# EAGLE library part MN3010 (library ic-bbd)
Dual 512-Stage Lo Noise BBD
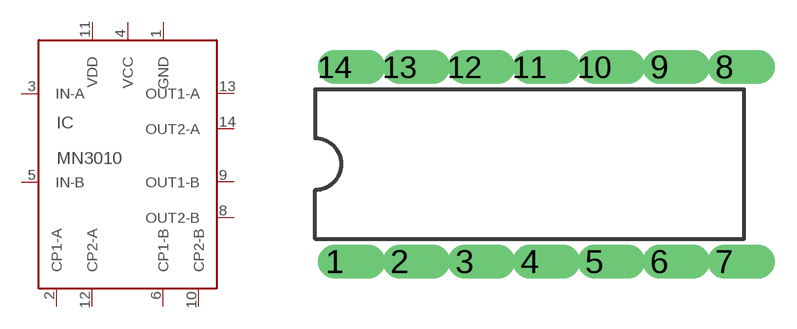
[diagram p7: symbol with the pads of DIL-14; footprint DIL-14]

Designator prefix IC

## MN3010  [DIL-14]
1  GND
2  CP1-A
3  IN-A
4  VCC
5  IN-B
6  CP1-B
8  OUT2-B
9  OUT1-B
10  CP2-B
11  VDD
12  CP2-A
13  OUT1-A
14  OUT2-A

## Footprint DIL-14 (pad centres in mm)
Dual In Line Package
drill 0.813 offset: 1 -7.62,-3.81; 2 -5.08,-3.81; 3 -2.54,-3.81; 4 0,-3.81; 5 2.54,-3.81; 6 5.08,-3.81; 7 7.62,-3.81; 8 7.62,3.81; 9 5.08,3.81; 10 2.54,3.81; 11 0,3.81; 12 -2.54,3.81; 13 -5.08,3.81; 14 -7.62,3.81